# Altium footprint library WSON-8.PcbLib: 1 footprints
Each footprint in its own frame and in the unit in brackets; x right, y up, seen from the top. Pads: shape width x height; smd on the part's side, far side on the other; paste and mask are expansions set on the pad; w line width, h text height; cw(c..) or ccw(c..) is an arc to the next point about the centre after c.
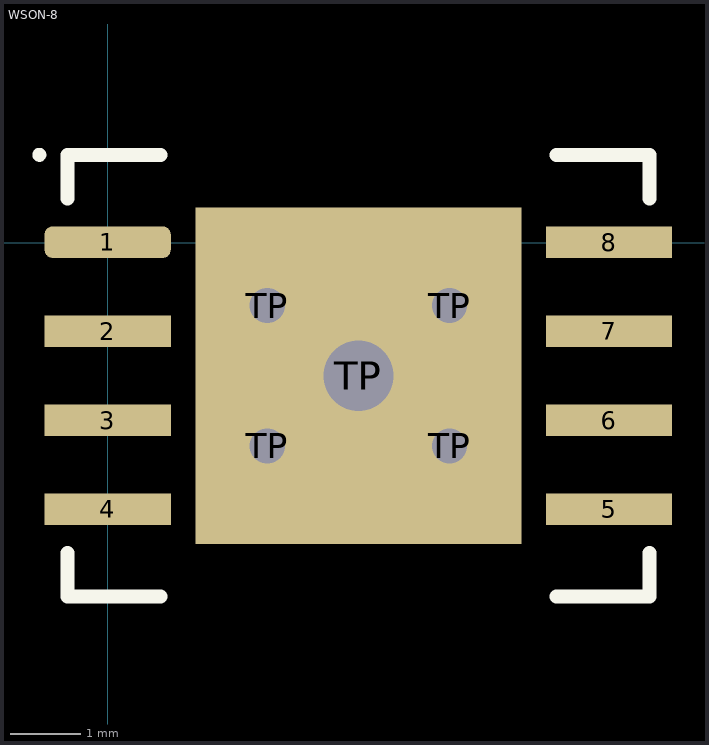
[diagram p0: the footprint, top view; thin cyan lines are the x and y axes]

## WSON-8 [mm] "WSON, 8-Leads, Body 6,00x8,00mm, Pitch 1,27mm, Thermal Pad 4,80x4,65mm"
height 0.75
pads (14):
  rrect50% 1.8x0.45 smd: 1(0,0.005)
  rect 1.8x0.45 smd: 2(0,-1.265) 3(0,-2.535) 4(0,-3.805) 5(7.15,-3.805) 6(7.15,-2.535) 7(7.15,-1.265) 8(7.15,0.005)
  round 0.8 hole 0.5: TP(2.275,-2.9) TP(2.275,-0.9) TP(4.875,-2.9) TP(4.875,-0.9)
  rect 4.65x4.8 smd paste-2.325: TP(3.575,-1.9)
  round 1.5 hole 1: TP(3.575,-1.9)
Top Overlay:
  circle w0.1: c-0.975,1.25 r0.05
  lines w0.2: -0.575,-4.43 -0.575,-5.05 0.75,-5.05 ; -0.575,0.63 -0.575,1.25 0.75,1.25 ; 6.4,-5.05 7.725,-5.05 7.725,-4.43 ; 6.4,1.25 7.725,1.25 7.725,0.63
3D body "WSON-8.step": height 0.75, standoff 0, extent -0.445,-4.9 7.595,1.1